# EAGLE library part MUX_16 (library greghale_eib_preamp)
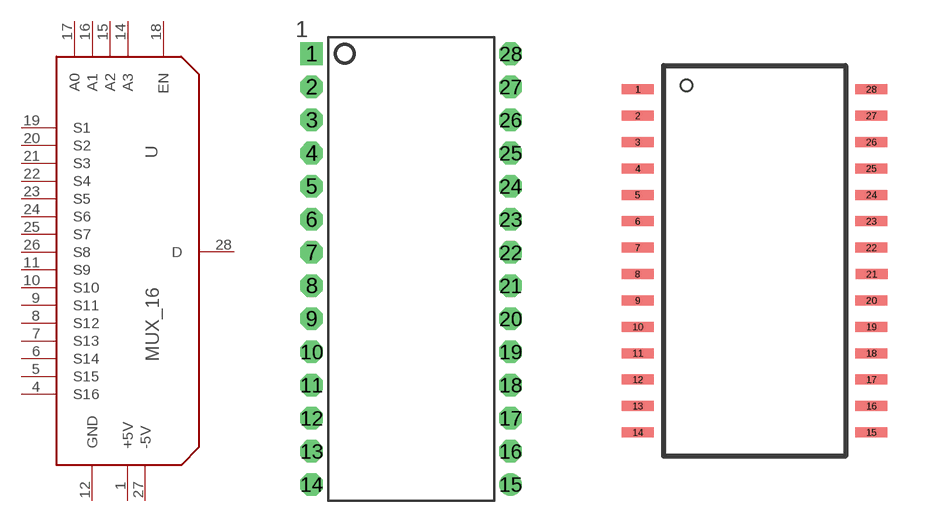
[diagram p2: symbol with the pads of DIP28; footprints DIP28, TSSOP28]

Designator prefix -

## MUX_16DIP  [DIP28]
1  +5V
4  S16
5  S15
6  S14
7  S13
8  S12
9  S11
10  S10
11  S9
12  GND
14  A3
15  A2
16  A1
17  A0
18  EN
19  S1
20  S2
21  S3
22  S4
23  S5
24  S6
25  S7
26  S8
27  -5V
28  D

## MUX_16SOIC  [TSSOP28]
Pads as for DIP28

## MUX_16LFCSP  [LFCSP_VQ_32]
1  S16
2  S15
3  S14
4  S13
5  S12
6  S11
7  S10
8  S9
9  GND
10  A3
11  A2
14  A1
15  A0
16  EN
17  S1
18  S2
19  S3
20  S4
21  S5
22  S6
23  S7
24  S8
25  -5V
29  D
31  +5V

## MUX_16LFCSP_THRM  [LFCSP_VQ_32_THRM]
Pads as for LFCSP_VQ_32

## Footprint DIP28 (pad centres in mm)
drill 1 pad 1.727 square: 1 -3.81,8.89
drill 1 pad 1.727 octagon: 2 -3.81,6.35; 3 -3.81,3.81; 4 -3.81,1.27; 5 -3.81,-1.27; 6 -3.81,-3.81; 7 -3.81,-6.35; 8 -3.81,-8.89; 9 -3.81,-11.43; 10 -3.81,-13.97; 11 -3.81,-16.51; 12 -3.81,-19.05; 13 -3.81,-21.59; 14 -3.81,-24.13; 16 11.43,-21.59; 17 11.43,-19.05; 18 11.43,-16.51; 19 11.43,-13.97; 20 11.43,-11.43; 21 11.43,-8.89; 22 11.43,-6.35; 23 11.43,-3.81; 24 11.43,-1.27; 25 11.43,1.27; 26 11.43,3.81; 27 11.43,6.35; 28 11.43,8.89
drill 1 pad 1.727 round: 15 11.43,-24.13

## Footprint TSSOP28 (pad centres in mm)
smd 0.8 x 0.25: 1 -2.921,4.623; 2 -2.921,3.962; 3 -2.921,3.302; 4 -2.921,2.642; 5 -2.921,1.981; 6 -2.921,1.321; 7 -2.921,0.66; 8 -2.927,0; 9 -2.921,-0.66; 10 -2.921,-1.321; 11 -2.921,-1.981; 12 -2.921,-2.642; 13 -2.921,-3.302; 14 -2.921,-3.962; 15 2.921,-3.962; 16 2.921,-3.302; 17 2.921,-2.642; 18 2.921,-1.981; 19 2.921,-1.321; 20 2.921,-0.66; 21 2.927,0; 22 2.921,0.66; 23 2.921,1.321; 24 2.921,1.981; 25 2.921,2.642; 26 2.921,3.302; 27 2.921,3.962; 28 2.921,4.623

## Footprint LFCSP_VQ_32 (pad centres in mm)
smd 0.6 x 0.25: 1 -2.5,1.75; 2 -2.5,1.25; 3 -2.5,0.75; 4 -2.5,0.25; 5 -2.5,-0.25; 6 -2.5,-0.75; 7 -2.5,-1.25; 8 -2.5,-1.75; 17 2.5,-1.75; 18 2.5,-1.25; 19 2.5,-0.75; 20 2.5,-0.25; 21 2.5,0.25; 22 2.5,0.75; 23 2.5,1.25; 24 2.5,1.75
smd 0.25 x 0.6: 9 -1.75,-2.5; 10 -1.25,-2.5; 11 -0.75,-2.5; 12 -0.25,-2.5; 13 0.25,-2.5; 14 0.75,-2.5; 15 1.25,-2.5; 16 1.75,-2.5; 25 1.75,2.5; 26 1.25,2.5; 27 0.75,2.5; 28 0.25,2.5; 29 -0.25,2.5; 30 -0.75,2.5; 31 -1.25,2.5; 32 -1.75,2.5

## Footprint LFCSP_VQ_32_THRM (pad centres in mm)
smd 0.6 x 0.25: 1 -2.5,1.75; 2 -2.5,1.25; 3 -2.5,0.75; 4 -2.5,0.25; 5 -2.5,-0.25; 6 -2.5,-0.75; 7 -2.5,-1.25; 8 -2.5,-1.75; 17 2.5,-1.75; 18 2.5,-1.25; 19 2.5,-0.75; 20 2.5,-0.25; 21 2.5,0.25; 22 2.5,0.75; 23 2.5,1.25; 24 2.5,1.75
smd 0.25 x 0.6: 9 -1.75,-2.5; 10 -1.25,-2.5; 11 -0.75,-2.5; 12 -0.25,-2.5; 13 0.25,-2.5; 14 0.75,-2.5; 15 1.25,-2.5; 16 1.75,-2.5; 25 1.75,2.5; 26 1.25,2.5; 27 0.75,2.5; 28 0.25,2.5; 29 -0.25,2.5; 30 -0.75,2.5; 31 -1.25,2.5; 32 -1.75,2.5
smd 3.1 x 3.1: THRM 0,0